# Altium schematic symbol library Schlib1.SchLib: 15 symbols
Pins are listed as number, name and electrical type; pins without a type are passive.

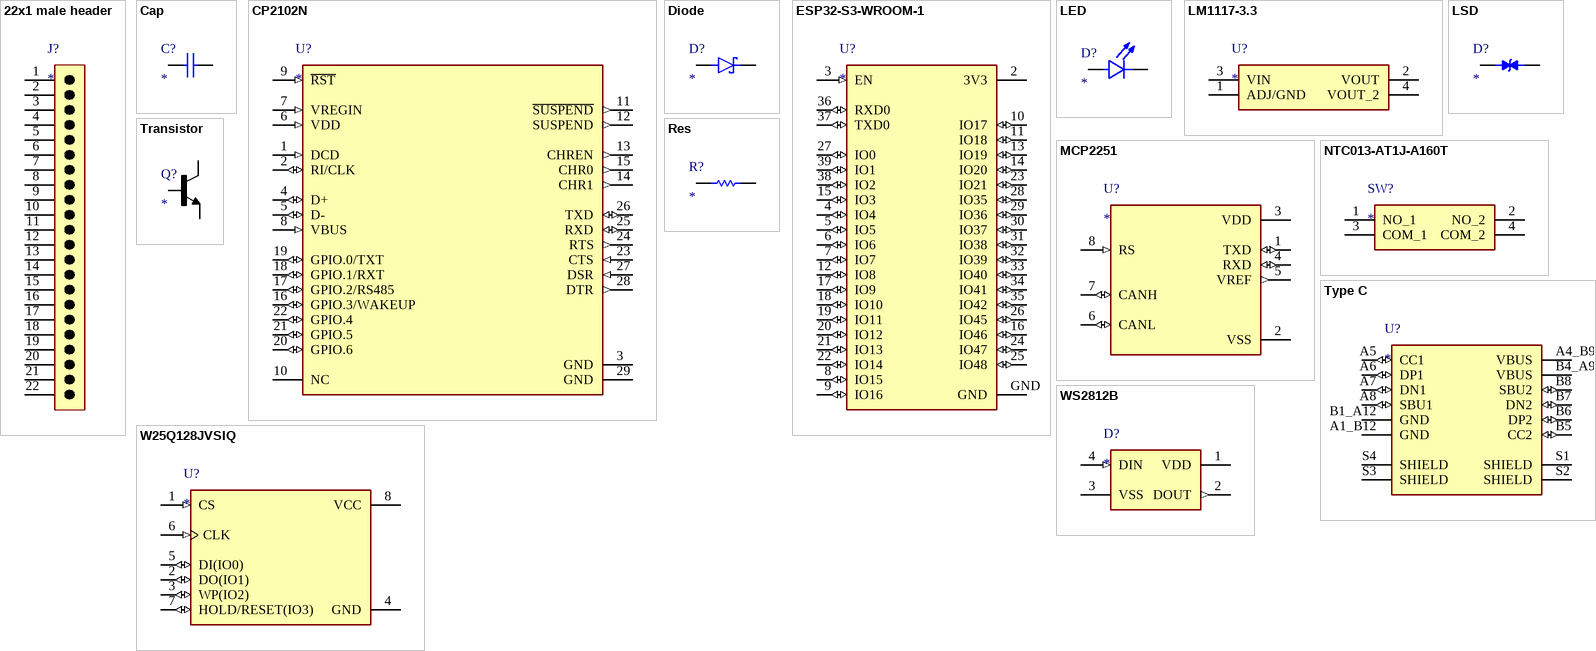
[diagram p0: symbols 22x1 male header to WS2812B]

## 22x1 male header
designator J?
footprint PCBComponent_1
pins: 1, 2, 3, 4, 5, 6, 7, 8, 9, 10, 11, 12, 13, 14, 15, 16, 17, 18, 19, 20, 21, 22

## Cap
designator C?
footprint C0402
footprint C0603
footprint C0805
pins: 01 +, 02 -

## CP2102N
designator U?
USB Bridge, USB to UART USB 2.0 UART Interface 28-QFN (5x5)
footprint QFN28
pins: 1 DCD (in), 2 RI/CLK (io), 3 GND (power), 4 D+ (io), 5 D- (io), 6 VDD (in), 7 VREGIN (in), 8 VBUS (in), 9 ~{RST} (in), 10 NC, 11 ~{SUSPEND} (out), 12 SUSPEND (out), 13 CHREN (out), 14 CHR1 (out), 15 CHR0 (out), 16 GPIO.3/WAKEUP (io), 17 GPIO.2/RS485 (io), 18 GPIO.1/RXT (io), 19 GPIO.0/TXT (io), 20 GPIO.6 (io), 21 GPIO.5 (io), 22 GPIO.4 (io), 23 CTS (in), 24 RTS (out), 25 RXD (io), 26 TXD (io), 27 DSR (in), 28 DTR (out), 29 GND (power)

## Diode
designator D?
footprint Diode
pins: A, C K

## ESP32-S3-WROOM-1
designator U?
Bluetooth, WiFi 802.11b/g/n, Bluetooth v5.0 Transceiver Module 2.4GHz PCB Trace Surface Mount
footprint ESP32
pins: 2 3V3 (power), 3 EN (in), 4 IO4 (io), 5 IO5 (io), 6 IO6 (io), 7 IO7 (io), 8 IO15 (io), 9 IO16 (io), 10 IO17 (io), 11 IO18 (io), 12 IO8 (io), 13 IO19 (io), 14 IO20 (io), 15 IO3 (io), 16 IO46 (io), 17 IO9 (io), 18 IO10 (io), 19 IO11 (io), 20 IO12 (io), 21 IO13 (io), 22 IO14 (io), 23 IO21 (io), 24 IO47 (io), 25 IO48 (io), 26 IO45 (io), 27 IO0 (io), 28 IO35 (io), 29 IO36 (io), 30 IO37 (io), 31 IO38 (io), 32 IO39 (io), 33 IO40 (io), 34 IO41 (io), 35 IO42 (io), 36 RXD0 (io), 37 TXD0 (io), 38 IO2 (io), 39 IO1 (io), GND (power)

## LED
designator D?
footprint LED0402
pins: 1 C, 2 A

## LM1117-3.3
designator U?
Linear Voltage Regulator IC Positive Fixed 1 Output 800mA DDPAK/TO-263-3
footprint SOT223
pins: 1 ADJ/GND, 2 VOUT (power), 3 VIN (power), 4 VOUT_2 (power)

## LSD
designator D?
footprint LSD
pins: 1, 2

## MCP2251
designator U?
footprint SOIC8
pins: 1 TXD (io), 2 VSS (power), 3 VDD (power), 4 RXD (io), 5 VREF (out), 6 CANL (io), 7 CANH (io), 8 RS (in)

## NTC013-AT1J-A160T
designator SW?
footprint Tactile sw
pins: 1 NO_1, 2 NO_2, 3 COM_1, 4 COM_2

## Res
designator R?
footprint R0402
footprint R0603
footprint R0805
pins: 01, 02

## Transistor
designator Q?
footprint Transistor
pins: 1 B, 2 E, 3 C

## Type C
designator U?
USB Connectors 24 Receptacle 1 8.94*7.3mm RoHS
footprint Type C
pins: A1_B12 GND (power), A4_B9 VBUS (power), A5 CC1 (io), A6 DP1 (io), A7 DN1 (io), A8 SBU1 (io), B1_A12 GND (power), B4_A9 VBUS (power), B5 CC2 (io), B6 DP2 (io), B7 DN2 (io), B8 SBU2 (io), S1 SHIELD, S2 SHIELD, S3 SHIELD, S4 SHIELD

## W25Q128JVSIQ
designator U?
FLASH - NOR Memory IC 128Mb (16M x 8) SPI - Quad I/O, QPI, DTR 133 MHz 8-SOIC
footprint SOIC8
pins: 1 CS (in), 2 DO(IO1) (io), 3 WP(IO2) (io), 4 GND (power), 5 DI(IO0) (io), 6 CLK (in), 7 HOLD/RESET(IO3) (io), 8 VCC (power)

## WS2812B
designator D?
Intelligent control LED integrated light source
footprint WS28128B
pins: 1 VDD (power), 2 DOUT (out), 3 VSS (power), 4 DIN (in)